# Altium schematic symbol library RS485.SchLib: 4 symbols
Pins are listed as number, name and electrical type; pins without a type are passive.

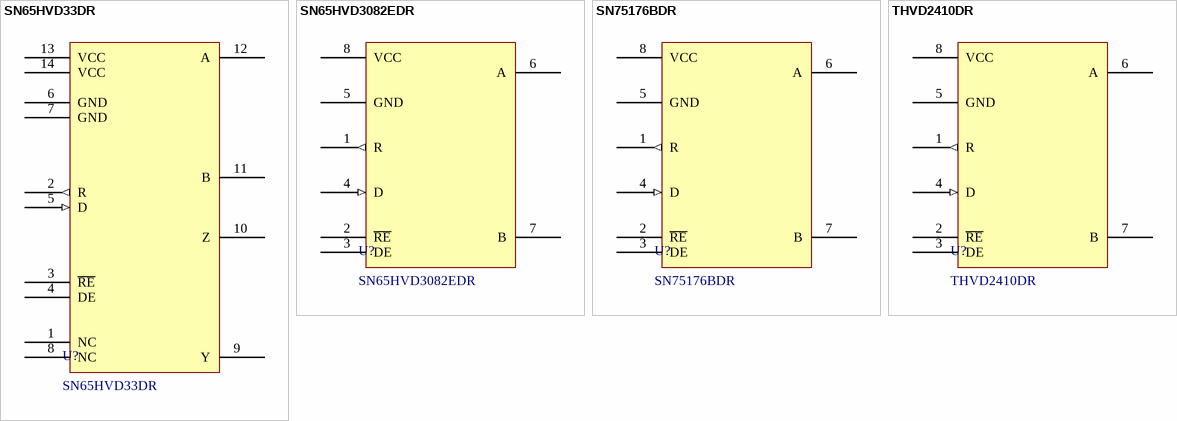
[diagram p0: symbols SN65HVD33DR to THVD2410DR]

## SN65HVD33DR
designator U?
Transceiver 23Mbps SOIC-14 RS-485 / RS-422 ICs ROHS; Manufacturer: Texas Instruments; Active Read Current - Max: Active; Data Rate: 26 Mb/s; Duplex: Full Duplex; Number of Drivers: 1; Operating Supply Current: 2 mA; Supply Voltage - Max: 3.6 V; Supply Voltage - Min: 3 V; Supplier 1 URL: https://www.mouser.com/ProductDetail/Texas-Instruments/SN65HVD33DR?qs=QViXGNcIEAuCd5VF4NkqaQ%3D%3D; Supplier 2 URL: https://www.digikey.com/en/products/detail/texas-instruments/sn65hvd1793dr/2047560; Supplier 3 URL: N/A; Value: SN65HVD33DR; Number of Receivers: 1; Manufacturer Part Number: SN65HVD33DR; Packaging: Tape and Reel; Supplier 1: Mouser; Supplier 1 Part Number: 595-SN65HVD33DR; Supplier 2: Digi-Key; Supplier 2 Part Number: 296-SN65HVD1793DRTR-ND; Supplier 3: thegioiic; Supplier 3 Part Number: N/A; Mount: SMD/SMT; Operating Temperature Max: + 85 C; Operating Temperature Min: - 40 C; Package / Case: SOIC-14; ComponentLink1Description: Datasheet; ComponentLink1URL: https://lcsc.com/datasheet/lcsc_datasheet_2410010301_TI-SN65HVD33DR_C114985.pdf; LCSC Part #: C114985
footprint SN65HVD33DR (SOIC, 14-Leads, Body 8.65x3.90mm, Pitch 1.27mm, IPC Medium Density)
pins: 1 NC, 2 R (out), 3 ~{RE}, 4 DE, 5 D (in), 6 GND, 7 GND, 8 NC, 9 Y, 10 Z, 11 B, 12 A, 13 VCC, 14 VCC

## SN65HVD3082EDR
designator U?
RS-485 Interface IC Low-Power RS-485 Transceiver; Manufacturer: Texas Instruments; Active Read Current - Max: Active; Data Rate: 200 kb/s; Duplex: Half Duplex; Number of Drivers: 1; Operating Supply Current: 0.3 mA; Supply Voltage - Max: 5.5 V; Supply Voltage - Min: 4.5 V; Supplier 1 URL: https://www.mouser.com/ProductDetail/Texas-Instruments/SN65HVD3082EDR?qs=QViXGNcIEAt4eVFlsrGcgQ%3D%3D; Supplier 2 URL: N/A; Supplier 3 URL: N/A; Value: SN65HVD3082EDR; Number of Receivers: 1; Manufacturer Part Number: SN65HVD3082EDR; Packaging: Tape and Reel; Supplier 1: Mouser; Supplier 1 Part Number: 595-SN65HVD3082EDR; Supplier 2: Digi-Key; Supplier 2 Part Number: N/A; Supplier 3: thegioiic; Supplier 3 Part Number: N/A; Mount: SMD/SMT; Operating Temperature Max: + 85 C; Operating Temperature Min: - 40 C; Package / Case: SOIC-8; ComponentLink1Description: Datasheet; ComponentLink1URL: https://www.ti.com/lit/ds/symlink/sn65hvd3082e.pdf?ts=1733221873211&ref_url=https%253A%252F%252Fwww.ti.com%252Fproduct%252FSN65HVD3082E%253Fqgpn%253Dsn65hvd3082e; LCSC Part #: C6912
footprint SN75176BDR (SOIC, 8-Leads, Body 4.90x3.90mm, Pitch 1.27mm, IPC Medium Density)
pins: 1 R (out), 2 ~{RE}, 3 DE, 4 D (in), 5 GND, 6 A, 7 B, 8 VCC

## SN75176BDR
designator U?
RS-422/RS-485 Interface IC Differential Bus; Manufacturer: Texas Instruments; Active Read Current - Max: Active; Data Rate: 10 Mb/s; Duplex: Half Duplex; Number of Drivers: 1; Operating Supply Current: 70 mA; Supply Voltage - Max: 5.25 V; Supply Voltage - Min: 4.75 V; Supplier 1 URL: https://www.mouser.com/ProductDetail/Texas-Instruments/SN75176BDR?qs=sbcp%2F4gpy09LI1PRfuQQ%252BA%3D%3D; Supplier 2 URL: N/A; Supplier 3 URL: N/A; Value: SN75176BDR; Number of Receivers: 1; Manufacturer Part Number: SN75176BDR; Packaging: Tape and Reel; Supplier 1: Mouser; Supplier 1 Part Number: 595-SN75176BDR; Supplier 2: Digi-Key; Supplier 2 Part Number: N/A; Supplier 3: thegioiic; Supplier 3 Part Number: N/A; Mount: SMD/SMT; Operating Temperature Max: + 85 C; Operating Temperature Min: - 40 C; Package / Case: SOIC-8; ComponentLink1Description: Datasheet; ComponentLink1URL: https://www.ti.com/general/docs/suppproductinfo.tsp?distId=26&gotoUrl=https://www.ti.com/lit/gpn/sn75176b; LCSC Part #: C7063
footprint SN75176BDR (SOIC, 8-Leads, Body 4.90x3.90mm, Pitch 1.27mm, IPC Medium Density)
pins: 1 R (out), 2 ~{RE}, 3 DE, 4 D (in), 5 GND, 6 A, 7 B, 8 VCC

## THVD2410DR
designator U?
RS-485 Interface IC +/-70-V fault-protected 3.3-V to 5-V RS-485 transceiver with IEC ESD 8-SOIC -40 to 125; Manufacturer: Texas Instruments; Active Read Current - Max: Active; Data Rate: 500 kb/s; Duplex: Half Duplex; Number of Drivers: 1; Operating Supply Current: 3.5 mA; Supply Voltage - Max: 5.5 V; Supply Voltage - Min: 3 V; Supplier 1 URL: https://www.mouser.com/ProductDetail/Texas-Instruments/THVD2410DR?qs=sGAEpiMZZMutXGli8Ay4kAoIdUySgvbHWvY8ceVHoHw%3D; Supplier 2 URL: N/A; Supplier 3 URL: N/A; Value: THVD2410DR; Number of Receivers: 1; Manufacturer Part Number: THVD2410DR; Packaging: Tape and Reel; Supplier 1: Mouser; Supplier 1 Part Number: 595-THVD2410DR; Supplier 2: Digi-Key; Supplier 2 Part Number: N/A; Supplier 3: thegioiic; Supplier 3 Part Number: N/A; Mount: SMD/SMT; Operating Temperature Max: + 125 C; Operating Temperature Min: - 40 C; Package / Case: SOIC-8; ComponentLink1Description: Datasheet; ComponentLink1URL: https://www.ti.com/lit/ds/symlink/thvd2410.pdf?ts=1733287083739&ref_url=https%253A%252F%252Fwww.mouser.com%252F; LCSC Part #: C1849398
footprint SN75176BDR (SOIC, 8-Leads, Body 4.90x3.90mm, Pitch 1.27mm, IPC Medium Density)
pins: 1 R (out), 2 ~{RE}, 3 DE, 4 D (in), 5 GND, 6 A, 7 B, 8 VCC